# EAGLE library part DSPIC33FJ12MC201 (library john433)
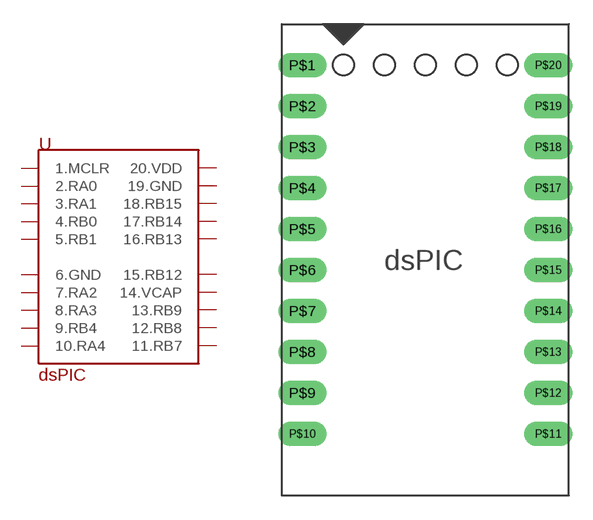
[diagram p1: symbol with the pads of DSPIC33FJ12MC201; footprint DSPIC33FJ12MC201]

Designator prefix -

## DSPIC33FJ12MC201  [DSPIC33FJ12MC201]
P$1  1.MCLR
P$2  2.RA0
P$3  3.RA1
P$4  4.RB0
P$5  5.RB1
P$6  6.GND
P$7  7.RA2
P$8  8.RA3
P$9  9.RB4
P$10  10.RA4
P$11  11.RB7
P$12  12.RB8
P$13  13.RB9
P$14  14.VCAP
P$15  15.RB12
P$16  16.RB13
P$17  17.RB14
P$18  18.RB15
P$19  19.GND
P$20  20.VDD

## Footprint DSPIC33FJ12MC201 (pad centres in mm)
drill 1 long: P$1 0,0; P$2 0,-2.54; P$3 0,-5.08; P$4 0,-7.62; P$5 0,-10.16; P$6 0,-12.7; P$7 0,-15.24; P$8 0,-17.78; P$9 0,-20.32; P$10 0,-22.86; P$11 15.24,-22.86; P$12 15.24,-20.32; P$13 15.24,-17.78; P$14 15.24,-15.24; P$15 15.24,-12.7; P$16 15.24,-10.16; P$17 15.24,-7.62; P$18 15.24,-5.08; P$19 15.24,-2.54; P$20 15.24,0